# EAGLE library part MGA-62563-BLKG (library Avago_By_element14_Batch_1)
Current-Adjustable, Low Noise Amplifier
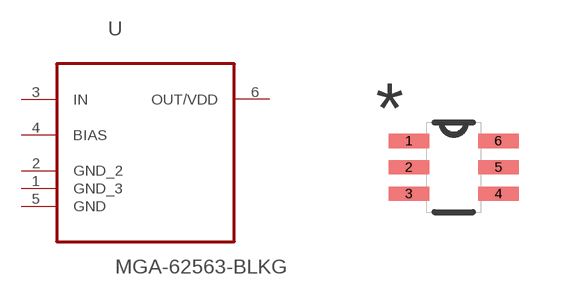
[diagram p22: symbol with the pads of SOT65P210X110-6N; footprint SOT65P210X110-6N]

Designator prefix U

## MGA-62563-BLKG (MPN: MGA-62563-BLKG; OC_FARNELL: -; OC_NEWARK: 64J0347; PACKAGE: SC-70-6; SUPPLIER: Avago Technologies)  [SOT65P210X110-6N]
1  GND_3  pas
2  GND_2  pas
3  IN  in
4  BIAS  in
5  GND  pas
6  OUT/VDD  out

## Footprint SOT65P210X110-6N (pad centres in mm)
smd 1.016 x 0.356: 1 -1.118,0.66; 2 -1.118,0; 3 -1.118,-0.66; 4 1.118,-0.66; 5 1.118,0; 6 1.118,0.66